# Altium footprint library SIL0008A.PcbLib: 1 footprints
Each footprint in its own frame and in the unit in brackets; x right, y up, seen from the top. Pads: shape width x height; smd on the part's side, far side on the other; paste and mask are expansions set on the pad; w line width, h text height; cw(c..) or ccw(c..) is an arc to the next point about the centre after c.
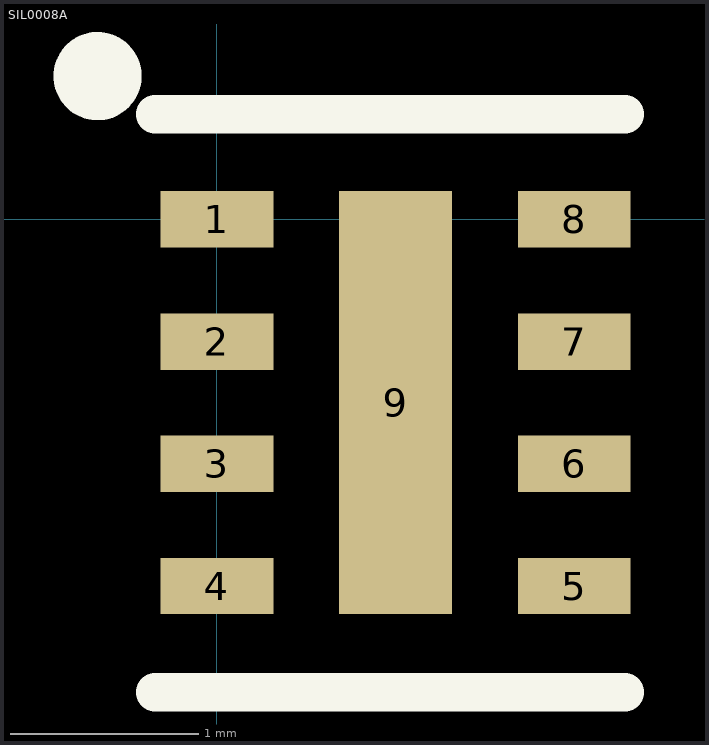
[diagram p0: the footprint, top view; thin cyan lines are the x and y axes]

## SIL0008A [mm]
pads (9):
  rect 0.6x0.3 smd paste+0 mask+0: 1(0,0) 2(0,-0.65) 3(0,-1.3) 4(0,-1.95) 5(1.9,-1.95) 6(1.9,-1.3) 7(1.9,-0.65) 8(1.9,0)
  rect 0.6x2.25 smd paste-0.3 mask+0: 9(0.95,-0.975)
Top Overlay:
  circle w0.254: c-0.635,0.762 r0.108
  lines w0.203: -0.33,-2.515 2.17,-2.515 ; -0.33,0.559 2.17,0.559
Top Paste:
  rectangle: 0.65,-1.292 1.25,-0.672
  region: 1.25,-1.481 0.65,-1.481 0.65,-2.101 1.25,-2.101
  rectangle: 0.65,-0.469 1.25,0.151
3D body: height 1.5, standoff 0.41, extent 0.15,-1.975 1.75,0.025
3D body: height 0.41, standoff 0, extent -0.35,-2.475 2.25,0.525